# EAGLE library part ICE40UP5K-SG48I (library alvie)
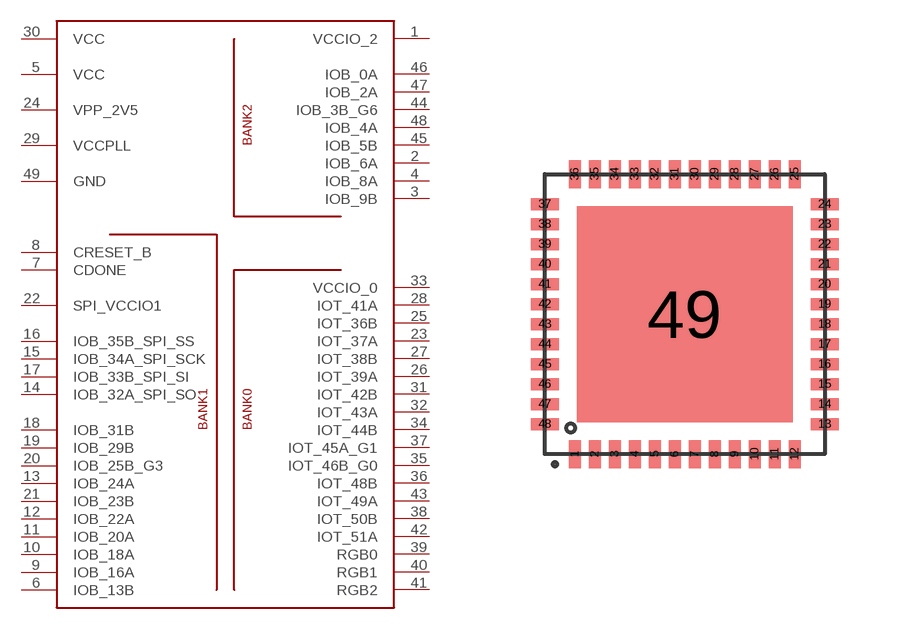
[diagram p23: symbol with the pads of QFN48; footprint QFN48]

Designator prefix -

## ICE40UP5K-SG48I  [QFN48]
1  VCCIO_2  pwr
2  IOB_6A
3  IOB_9B
4  IOB_8A
5  VCC  pwr
6  IOB_13B
7  CDONE  out
8  CRESET_B  in
9  IOB_16A
10  IOB_18A
11  IOB_20A
12  IOB_22A
13  IOB_24A
14  IOB_32A_SPI_SO
15  IOB_34A_SPI_SCK
16  IOB_35B_SPI_SS
17  IOB_33B_SPI_SI
18  IOB_31B
19  IOB_29B
20  IOB_25B_G3
21  IOB_23B
22  SPI_VCCIO1  pwr
23  IOT_37A
24  VPP_2V5  pwr
25  IOT_36B
26  IOT_39A
27  IOT_38B
28  IOT_41A
29  VCCPLL  pwr
30  VCC  pwr
31  IOT_42B
32  IOT_43A
33  VCCIO_0  pwr
34  IOT_44B
35  IOT_46B_G0
36  IOT_48B
37  IOT_45A_G1
38  IOT_50B
39  RGB0
40  RGB1
41  RGB2
42  IOT_51A
43  IOT_49A
44  IOB_3B_G6
45  IOB_5B
46  IOB_0A
47  IOB_2A
48  IOB_4A
49  GND  pwr

## Footprint QFN48 (pad centres in mm)
smd 0.3 x 0.7: 1 -2.815,-3.515; 2 -2.315,-3.515; 3 -1.815,-3.515; 4 -1.315,-3.515; 5 -0.815,-3.515; 6 -0.315,-3.515; 7 0.185,-3.515; 8 0.685,-3.515; 9 1.185,-3.515; 10 1.685,-3.515; 11 2.185,-3.515; 12 2.685,-3.515; 25 2.685,3.485; 26 2.185,3.485; 27 1.685,3.485; 28 1.185,3.485; 29 0.685,3.485; 30 0.185,3.485; 31 -0.315,3.485; 32 -0.815,3.485; 33 -1.315,3.485; 34 -1.815,3.485; 35 -2.315,3.485; 36 -2.815,3.485
smd 0.7 x 0.3: 13 3.435,-2.765; 14 3.435,-2.265; 15 3.435,-1.765; 16 3.435,-1.265; 17 3.435,-0.765; 18 3.435,-0.265; 19 3.435,0.235; 20 3.435,0.735; 21 3.435,1.235; 22 3.435,1.735; 23 3.435,2.235; 24 3.435,2.735; 37 -3.565,2.735; 38 -3.565,2.235; 39 -3.565,1.735; 40 -3.565,1.235; 41 -3.565,0.735; 42 -3.565,0.235; 43 -3.565,-0.265; 44 -3.565,-0.765; 45 -3.565,-1.265; 46 -3.565,-1.765; 47 -3.565,-2.265; 48 -3.565,-2.765
smd 5.4 x 5.4: 49 -0.065,-0.015